# Altium schematic symbol library EEPROM.SchLib: 4 symbols
Pins are listed as number, name and electrical type; pins without a type are passive.

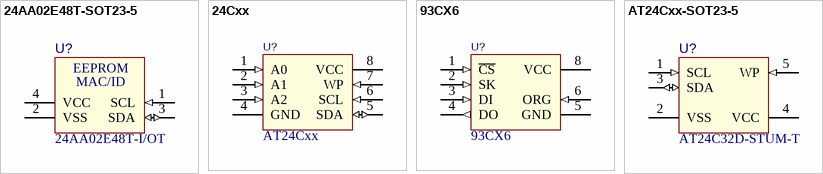
[diagram p0: symbols 24AA02E48T-SOT23-5 to AT24Cxx-SOT23-5]

## 24AA02E48T-SOT23-5
designator U?  value 24AA02E48T-I/OT  (hidden comment: 24AA02E48T-SOT23-5)
24AA02E48T-I/OT
footprint SOT-23-5 (SOT23, 5-Leads, Body 2.9x1.6mm, Pitch 0.95mm, Lead Span 2.8mm, IPC Medium Density)
pins: 1 SCL (in), 2 VSS (power), 3 SDA (io), 4 VCC (power)
text: EEPROM; MAC/ID

## 24Cxx
designator U?, comment AT24Cxx
Value: AT24Cxx
footprint SO-8_L (8-Pin Small Outline Integrated Circuit 1.27 mm Pitch, IPC High Density)
footprint TSSOP-8 (Shrink Small Outline; 8 Leads; Body Width 4.4 mm; Pitch 0.65 mm)
pins: 1 A0 (in), 2 A1 (in), 3 A2 (in), 4 GND (power), 5 SDA (io), 6 SCL (in), 7 WP (in), 8 VCC (power)

## 93CX6
designator U?
Value: 93CX6
footprint SO-8_L (8-Pin Small Outline Integrated Circuit 1.27 mm Pitch, IPC High Density)
footprint TSSOP-8 (Shrink Small Outline; 8 Leads; Body Width 4.4 mm; Pitch 0.65 mm)
pins: 1 ~{CS} (in), 2 SK (in), 3 DI (in), 4 DO (out), 5 GND (power), 6 ORG (in), 8 VCC (power)

## AT24Cxx-SOT23-5
designator U?, comment AT24C32D-STUM-T
IC EEPROM 32KBIT I2C SOT23-5; Value: AT24C32D-STUM-T
footprint SOT-23-5 (SOT23, 5-Leads, Body 2.9x1.6mm, Pitch 0.95mm, Lead Span 2.8mm, IPC Medium Density)
pins: 1 SCL (in), 2 VSS (power), 3 SDA (io), 4 VCC (power), 5 WP (in)